# Altium footprint library PcbLib1.PcbLib: 38 footprints (part 1 of 3)
Each footprint in its own frame and in the unit in brackets; x right, y up, seen from the top. Pads: shape width x height; smd on the part's side, far side on the other; paste and mask are expansions set on the pad; w line width, h text height; cw(c..) or ccw(c..) is an arc to the next point about the centre after c.
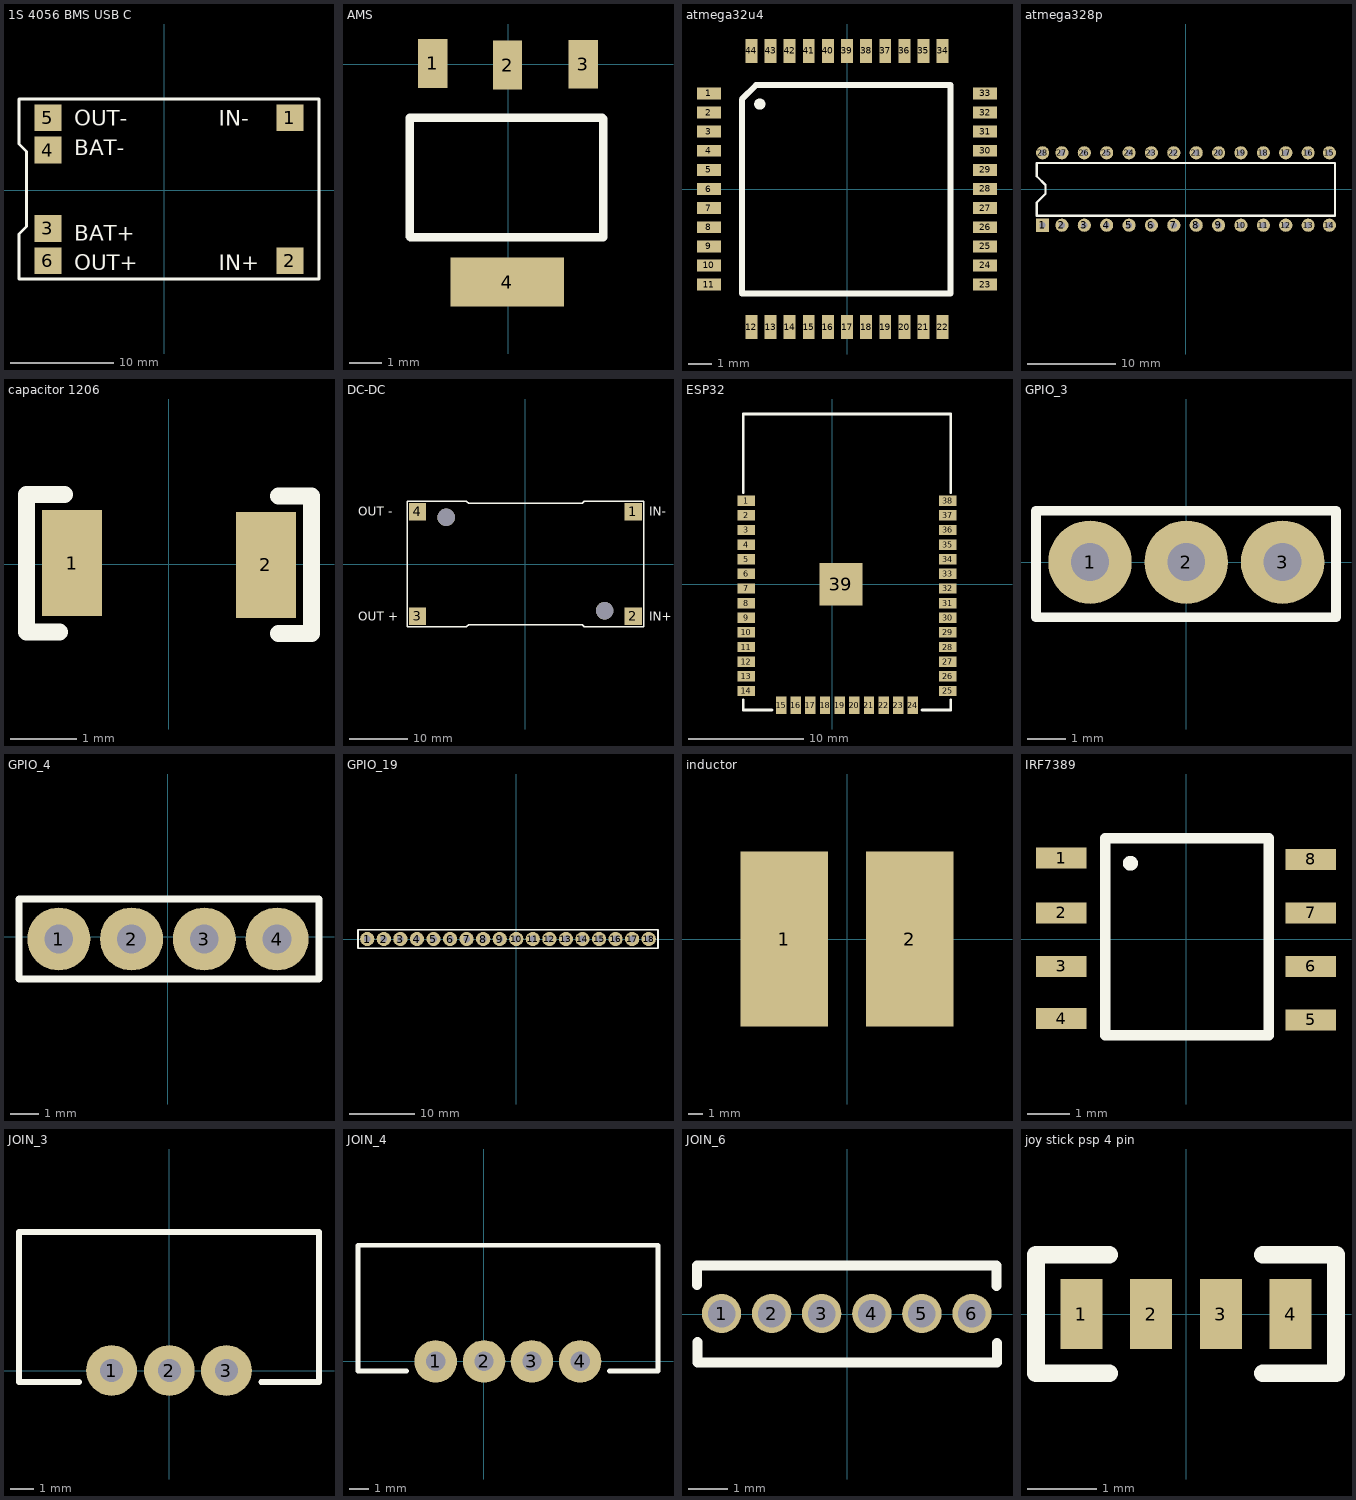
[diagram p0: the footprints below, top view; thin cyan lines are the x and y axes]

## 1S 4056 BMS USB C [mm]
pads (6):
  rect 2.6x2.6 smd: 1(12.15,7.025) 2(12.15,-6.825) 3(-11.3,-3.7) 4(-11.3,3.9) 5(-11.3,7.025) 6(-11.3,-6.825)
Top Overlay:
  lines w0.254: -14.1,-8.6 14.975,-8.6 14.975,8.85 -14.1,8.85 -14.1,4.487 -13.375,3.762 -13.375,-3.512 -14.1,-4.237 -14.1,-8.6
  text "IN-" at 5.254,6.254 h1.52
  text "IN+" at 5.254,-7.746 h1.52
  text "BAT+" at -8.746,-4.871 h1.52
  text "BAT-" at -8.746,3.379 h1.52
  text "OUT-" at -8.746,6.254 h1.52
  text "OUT+" at -8.746,-7.746 h1.52
3D body "1S 4056 BMS USB C Module 01b.step": height 5.26, standoff 0.4, extent -14.115,-8.55 14.965,8.75

## AMS [mm]
pads (4):
  rect 0.9x1.5 smd: 1(-2.312,0.025) 2(-0.012,-0.025) 3(2.312,0)
  rect 3.5x1.5 smd: 4(-0.025,-6.7)
Top Overlay:
  lines w0.254: -3.025,-5.3 -3.025,-1.65 2.9,-1.65 2.925,-1.675 2.925,-5.325 -3,-5.325 -3.025,-5.3
3D body "SOT223-3.step": height 1.6, standoff 0, extent -3.301,-6.925 3.199,0.149

## atmega32u4 [mm]
pads (44):
  rect 1x0.5 smd: 1(-5.775,4) 2(-5.775,3.2) 3(-5.775,2.4) 4(-5.775,1.6) 5(-5.775,0.8) 6(-5.775,0) 7(-5.775,-0.8) 8(-5.775,-1.6) 9(-5.775,-2.4) 10(-5.775,-3.2) 11(-5.775,-4) 23(5.775,-4) 24(5.775,-3.2) 25(5.775,-2.4) 26(5.775,-1.6) 27(5.775,-0.8) 28(5.775,0) 29(5.775,0.8) 30(5.775,1.6) 31(5.775,2.4) 32(5.775,3.2) 33(5.775,4)
  rect 0.5x1 smd: 12(-4,-5.775) 13(-3.2,-5.775) 14(-2.4,-5.775) 15(-1.6,-5.775) 16(-0.8,-5.775) 17(0,-5.775) 18(0.8,-5.775) 19(1.6,-5.775) 20(2.4,-5.775) 21(3.2,-5.775) 22(4,-5.775) 34(4,5.775) 35(3.2,5.775) 36(2.4,5.775) 37(1.6,5.775) 38(0.8,5.775) 39(0,5.775) 40(-0.8,5.775) 41(-1.6,5.775) 42(-2.4,5.775) 43(-3.2,5.775) 44(-4,5.775)
Top Overlay:
  circle w0.254: c-3.65,3.55 r0.106
  lines w0.254: -4.4,-4.375 4.331,-4.375 4.331,4.35 -3.8,4.35 -4.4,3.75 -4.4,-4.375
3D body "Atmega32u4 v4.step": height 1.05, standoff -0.06, extent -6,-6.002 6,5.999

## atmega328p [mm]
pads (28):
  rect 1.5x1.5 hole 0.7: 1(-16.325,-4.075)
  round 1.5 hole 0.7: 2(-14.125,-4.075) 3(-11.575,-4.075) 4(-9.025,-4.075) 5(-6.475,-4.075) 6(-3.925,-4.075) 7(-1.375,-4.075) 8(1.175,-4.075) 9(3.725,-4.075) 10(6.275,-4.075) 11(8.825,-4.075) 12(11.375,-4.075) 13(13.925,-4.075) 14(16.35,-4.075) 15(16.35,4.175) 16(13.925,4.175) 17(11.375,4.175) 18(8.825,4.175) 19(6.275,4.175) 20(3.725,4.175) 21(1.175,4.175) 22(-1.375,4.175) 23(-3.925,4.175) 24(-6.475,4.175) 25(-9.025,4.175) 26(-11.575,4.175) 27(-14.125,4.175) 28(-16.325,4.175)
Top Overlay:
  lines w0.254: -17,-3 -17,-1.5 -16,-0.5 -16,0.5 -17,1.5 -17,3 17,3 17,-3 -17,-3
3D body "ATMega328.SLDPRT": height 5.03, standoff -2.61, extent -17.27,-4.259 17.27,4.259

## capacitor 1206 [mm]
pads (2):
  rect 0.9x1.6 smd: 1(-1.462,0.013) 2(1.463,-0.012)
Top Overlay:
  lines w0.254: -2.15,-1.025 -1.65,-1.025 ; -2.15,-1 -2.15,1.05 -1.575,1.05 ; 1.65,-1.05 2.15,-1.05 2.15,1.025 1.65,1.025
3D body "1206 кондёр.x_b": height 1.61, standoff 0.01, extent -1.562,-0.737 1.538,0.763

## DC-DC [mm]
pads (6):
  rect 3x3 smd: 1(18.525,8.975) 2(18.525,-8.975) 3(-18.525,-8.975) 4(-18.525,8.975)
  round 3 hole 3: ""(-13.6,8.025) ""(13.6,-8.025)
Top Overlay:
  lines w0.254: -20.3,-10.8 -20.3,10.8 -10.15,10.8 -9.75,10.4 9.75,10.4 10.15,10.8 20.3,10.8 20.3,-10.7 20.3,-10.8 10.15,-10.8 9.75,-10.4 -9.75,-10.4 -10.15,-10.8 -20.3,-10.8
  text "IN-" at 21.254,8.254 h1.52
  text "IN+" at 21.254,-9.746 h1.52
  text "OUT +" at -28.746,-9.746 h1.52
  text "OUT -" at -28.746,8.254 h1.52
3D body "Step Up.SLDPRT": height 12.25, standoff 0, extent -20.1,-10.55 20.1,10.55

## ESP32 [mm]
pads (39):
  rect 1.5x0.9 smd: 1(-7.47,7.25) 2(-7.47,5.98) 3(-7.47,4.71) 4(-7.47,3.44) 5(-7.47,2.17) 6(-7.47,0.9) 7(-7.47,-0.37) 8(-7.47,-1.64) 9(-7.47,-2.91) 10(-7.47,-4.18) 11(-7.47,-5.45) 12(-7.47,-6.72) 13(-7.47,-7.99) 14(-7.47,-9.26) 25(10.02,-9.26) 26(10.02,-7.99) 27(10.02,-6.72) 28(10.02,-5.45) 29(10.02,-4.18) 30(10.02,-2.91) 31(10.02,-1.64) 32(10.02,-0.37) 33(10.02,0.9) 34(10.02,2.17) 35(10.02,3.44) 36(10.02,4.71) 37(10.02,5.98) 38(10.02,7.25)
  rect 0.9x1.5 smd: 15(-4.44,-10.51) 16(-3.17,-10.51) 17(-1.9,-10.51) 18(-0.63,-10.51) 19(0.64,-10.51) 20(1.91,-10.51) 21(3.18,-10.51) 22(4.45,-10.51) 23(5.72,-10.51) 24(6.99,-10.51)
  rect 3.7x3.7 smd: 39(0.75,0)
Top Overlay:
  lines w0.254: -7.725,-10.03 -7.725,-10.93 -5.225,-10.93 ; -7.725,7.97 -7.725,14.77 10.275,14.77 10.275,7.97 ; 7.775,-10.93 10.275,-10.93 10.275,-10.03
3D body "ESP32-WROOM-32D.step": height 2.6, standoff -0.01, extent -7.7,-10.755 10.2,14.7

## GPIO_3 [mm]
pads (3):
  round 2.2 hole 1: 1(-2.54,0) 2(0,0) 3(2.54,0)
Top Overlay:
  lines w0.254: -3.965,-1.45 3.95,-1.45 3.95,1.35 -3.965,1.35 -3.965,-1.45
3D body "1x3 Male Pin Header.STEP": height 10.54, standoff -3, extent -3.817,-1.3 3.808,1.2

## GPIO_4 [mm]
pads (4):
  round 2.2 hole 1: 1(-3.81,-0.075) 2(-1.27,-0.075) 3(1.27,-0.075) 4(3.81,-0.075)
Top Overlay:
  lines w0.254: -5.2,-1.475 5.275,-1.475 5.275,1.325 -5.2,1.325 -5.2,-1.475
3D body "1x4 Male Pin Header.STEP": height 10.54, standoff -3, extent -5.045,-1.325 5.12,1.175

## GPIO_19 [mm]
pads (18):
  round 2.2 hole 1: 1(-22.86,0) 2(-20.32,0) 3(-17.78,0) 4(-15.24,0) 5(-12.7,0) 6(-10.16,0) 7(-7.62,0) 8(-5.08,0) 9(-2.54,0) 10(0,0) 11(2.54,0) 12(5.08,0) 13(7.62,0) 14(10.16,0) 15(12.7,0) 16(15.24,0) 17(17.78,0) 18(20.32,0)
Top Overlay:
  lines w0.254: -24.285,-1.4 21.75,-1.4 21.75,1.4 -24.285,1.4 -24.285,-1.4
3D body "1x18 Male Pin Header.STEP": height 10.54, standoff -3, extent -24.125,-1.25 21.6,1.25

## inductor [mm]
pads (2):
  rect 6x12 smd: 1(-4.3,0) 2(4.3,0)
3D body "L_12x12mm_H8mm.step": height 7.56, standoff 0, extent -6,-6 6,6

## IRF7389 [mm]
pads (8):
  rect 1.2x0.5 smd: 1(-2.975,1.925) 2(-2.975,0.625) 3(-2.975,-0.65) 4(-2.975,-1.9) 5(2.975,-1.925) 6(2.975,-0.65) 7(2.975,0.625) 8(2.975,1.9)
Top Overlay:
  circle w0.254: c-1.325,1.805 r0.05
  lines w0.254: -1.925,-2.295 -1.925,2.405 1.975,2.405 1.975,-2.295 -1.925,-2.295
3D body "SOIC08 narrow.stp": height 2, standoff 0, extent -3.082,-2.495 3.082,2.505

## JOIN_3 [mm]
pads (3):
  round 2.2 hole 1: 1(-2.487,0) 2(0.013,0) 3(2.488,0)
Top Overlay:
  lines w0.254: -3.9,-0.5 -6.5,-0.5 -6.5,6 6.5,6 6.5,-0.5 4,-0.5
3D body "JST-XH3-SMD.step": height 7.8, standoff -2.4, extent -6.237,-0.325 6.263,5.775

## JOIN_4 [mm]
pads (4):
  round 2.2 hole 1: 1(-2.487,0) 2(0.013,0) 3(2.488,0) 4(4.975,0)
Top Overlay:
  lines w0.254: -4,-0.5 -6.5,-0.5 -6.5,6 9,6 9,-0.5 6.5,-0.5
3D body "JST-XH4-SMD.step": height 7.8, standoff -2.4, extent -6.2,-0.3 8.8,5.8

## JOIN_6 [mm]
pads (6):
  round 1 hole 0.7: 1(-3.2,0.025) 2(-1.925,0.025) 3(-0.65,0.025) 4(0.625,0.025) 5(1.9,0.025) 6(3.175,0.025)
Top Overlay:
  lines w0.254: -3.825,0.75 -3.825,1.25 3.8,1.25 3.8,0.725 ; -3.812,-0.7 -3.812,-1.225 3.813,-1.225 3.813,-0.725
3D body "DS1031-01-1x6P8BV3-1.step": height 4.61, standoff -2.59, extent -3.81,-1.25 3.81,1.25

## joy stick psp 4 pin [mm]
pads (4):
  rect 0.6x1 smd: 1(-1.5,0) 2(-0.5,0) 3(0.5,0) 4(1.5,0)
Top Overlay:
  lines w0.254: -1.1,-0.85 -2.15,-0.85 -2.15,0.85 -1.1,0.85 ; 1.1,-0.85 2.15,-0.85 2.15,0.85 1.1,0.85